# EAGLE library part XS3868 (library Jordan Boards)
This is an class 2 audio bluetooth board. It uses an OVC3860 as the main controller. It cannot be reprogrammed. Support is also limited
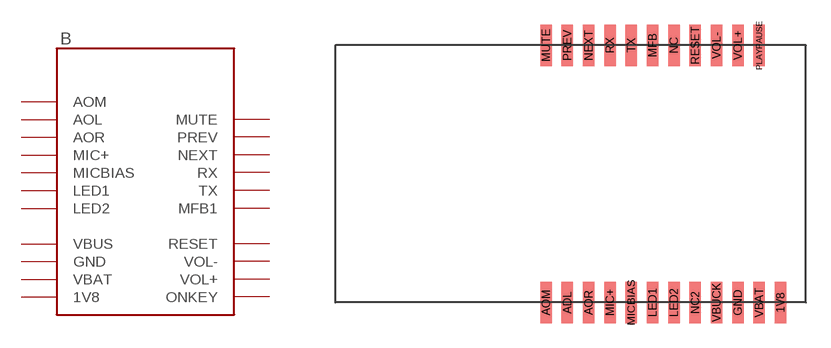
[diagram p0: symbol with the pads of XS3868; footprint XS3868]

Designator prefix B

## XS3868  [XS3868]
1V8  1V8
ADL  AOL
AOM  AOM
AOR  AOR
GND  GND
LED1  LED1
LED2  LED2
MFB  MFB1
MIC+  MIC+
MICBIAS  MICBIAS
MUTE  MUTE
NEXT  NEXT
PLAYPAUSE  ONKEY
PREV  PREV
RESET  RESET
RX  RX
TX  TX
VBAT  VBAT
VBUCK  VBUS
VOL+  VOL+
VOL-  VOL-

## Footprint XS3868 (pad centres in mm)
smd 0.7 x 2.54: 1V8 12.8,-7.85; ADL -0.2,-7.85; AOM -1.5,-7.85; AOR 1.1,-7.85; GND 10.2,-7.85; LED1 5,-7.85; LED2 6.3,-7.85; MFB 5,7.85; MIC+ 2.4,-7.85; MICBIAS 3.7,-7.85; MUTE -1.5,7.85; NC 6.3,7.85; NC2 7.6,-7.85; NEXT 1.1,7.85; PLAYPAUSE 11.5,7.85; PREV -0.2,7.85; RESET 7.6,7.85; RX 2.4,7.85; TX 3.7,7.85; VBAT 11.5,-7.85; VBUCK 8.9,-7.85; VOL+ 10.2,7.85; VOL- 8.9,7.85